# Altium footprint library PcbLib1.PcbLib: 3 footprints
Each footprint in its own frame and in the unit in brackets; x right, y up, seen from the top. Pads: shape width x height; smd on the part's side, far side on the other; paste and mask are expansions set on the pad; w line width, h text height; cw(c..) or ccw(c..) is an arc to the next point about the centre after c.
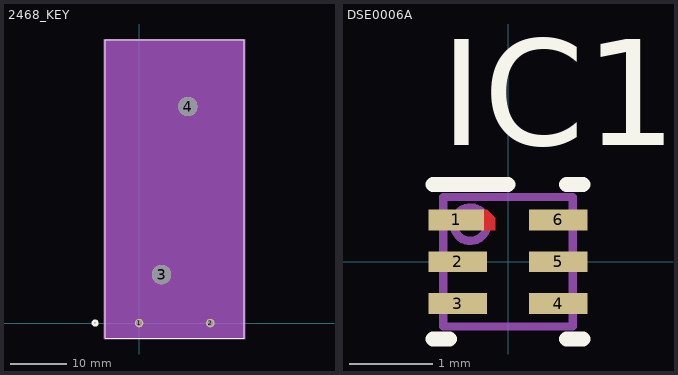
[diagram p0: the footprints below, top view; thin cyan lines are the x and y axes]

## 2468_KEY [mil]
pads (4):
  round 60 hole 40 paste-99999 mask+0: 1(0,0) 2(500,0)
  round 136 / inner round 60 / far side round 136 hole 136 unplated paste-99999 mask-68: 3(157.5,340) 4(342.5,1520)
Top Overlay:
  circle w20: c-309,0 r15
  lines w6: -239,-107 -239,1989 739,1989 739,-107 -239,-107
Bottom Overlay:
  circle w20: c-309,0 r15
Mechanical 13:
  circle w20: c0,75 r15
  lines w1: -234,-102 -234,1984 734,1984 734,-102 -234,-102
Mechanical 15:
  region: 744,1994 -244,1994 -244,-112 744,-112
  lines w6: -244,-112 744,-112 744,1994 -244,1994 -244,-112
3D body "2468.step": height 512.5, standoff -535.5, extent -233,-113 735,1973

## DSE0006A [mm]
pads (6):
  rect 0.66x0.25 smd paste+0 mask+0.051: 1(-0.62,0.5)
  rect 0.7x0.25 smd paste+0 mask+0.051: 2(-0.6,0) 3(-0.6,-0.5) 4(0.6,-0.5) 5(0.6,0) 6(0.6,0.5)
Top Layer:
  region: -0.3,0.375 -0.3,0.625 -0.25,0.625 -0.15,0.525 -0.15,0.375
Top Overlay:
  lines w0.178: -0.9,-0.925 -0.7,-0.925 ; -0.9,0.925 0,0.925 ; 0.7,-0.925 0.9,-0.925 ; 0.7,0.925 0.9,0.925
  text "IC1" at -0.813,1.397 h1.27
Top Paste:
  region: -0.3,0.375 -0.3,0.625 -0.25,0.625 -0.15,0.525 -0.15,0.375
Top Solder:
  region: -0.351,0.375 -0.351,0.625 -0.35,0.635 -0.347,0.644 -0.342,0.653 -0.336,0.661 -0.328,0.667 -0.319,0.672 -0.31,0.675 -0.3,0.676 -0.25,0.676 -0.24,0.675 -0.231,0.672 -0.222,0.667 -0.214,0.661 -0.114,0.561 -0.108,0.553 -0.103,0.544 -0.1,0.535 -0.099,0.525 -0.099,0.375 -0.1,0.365 -0.103,0.356 -0.108,0.347 -0.114,0.339 -0.122,0.333 -0.131,0.328 -0.14,0.325 -0.15,0.324 -0.3,0.324 -0.31,0.325 -0.319,0.328 -0.328,0.333 -0.336,0.339 -0.342,0.347 -0.347,0.356 -0.35,0.365
Mechanical 13:
  circle w0.1: c-0.45,0.45 r0.2
  lines w0.1: -0.775,-0.775 0.775,-0.775 0.775,0.775 -0.775,0.775 -0.775,-0.775
3D body "DSE0006A.stp": height 0.79, standoff -0.01, extent -0.75,-0.75 0.75,0.75

## PCBComponent_1 [mm]